# Altium footprint library Custom pcb footprint.PcbLib: 87 footprints (part 4 of 6)
Each footprint in its own frame and in the unit in brackets; x right, y up, seen from the top. Pads: shape width x height; smd on the part's side, far side on the other; paste and mask are expansions set on the pad; w line width, h text height; cw(c..) or ccw(c..) is an arc to the next point about the centre after c.
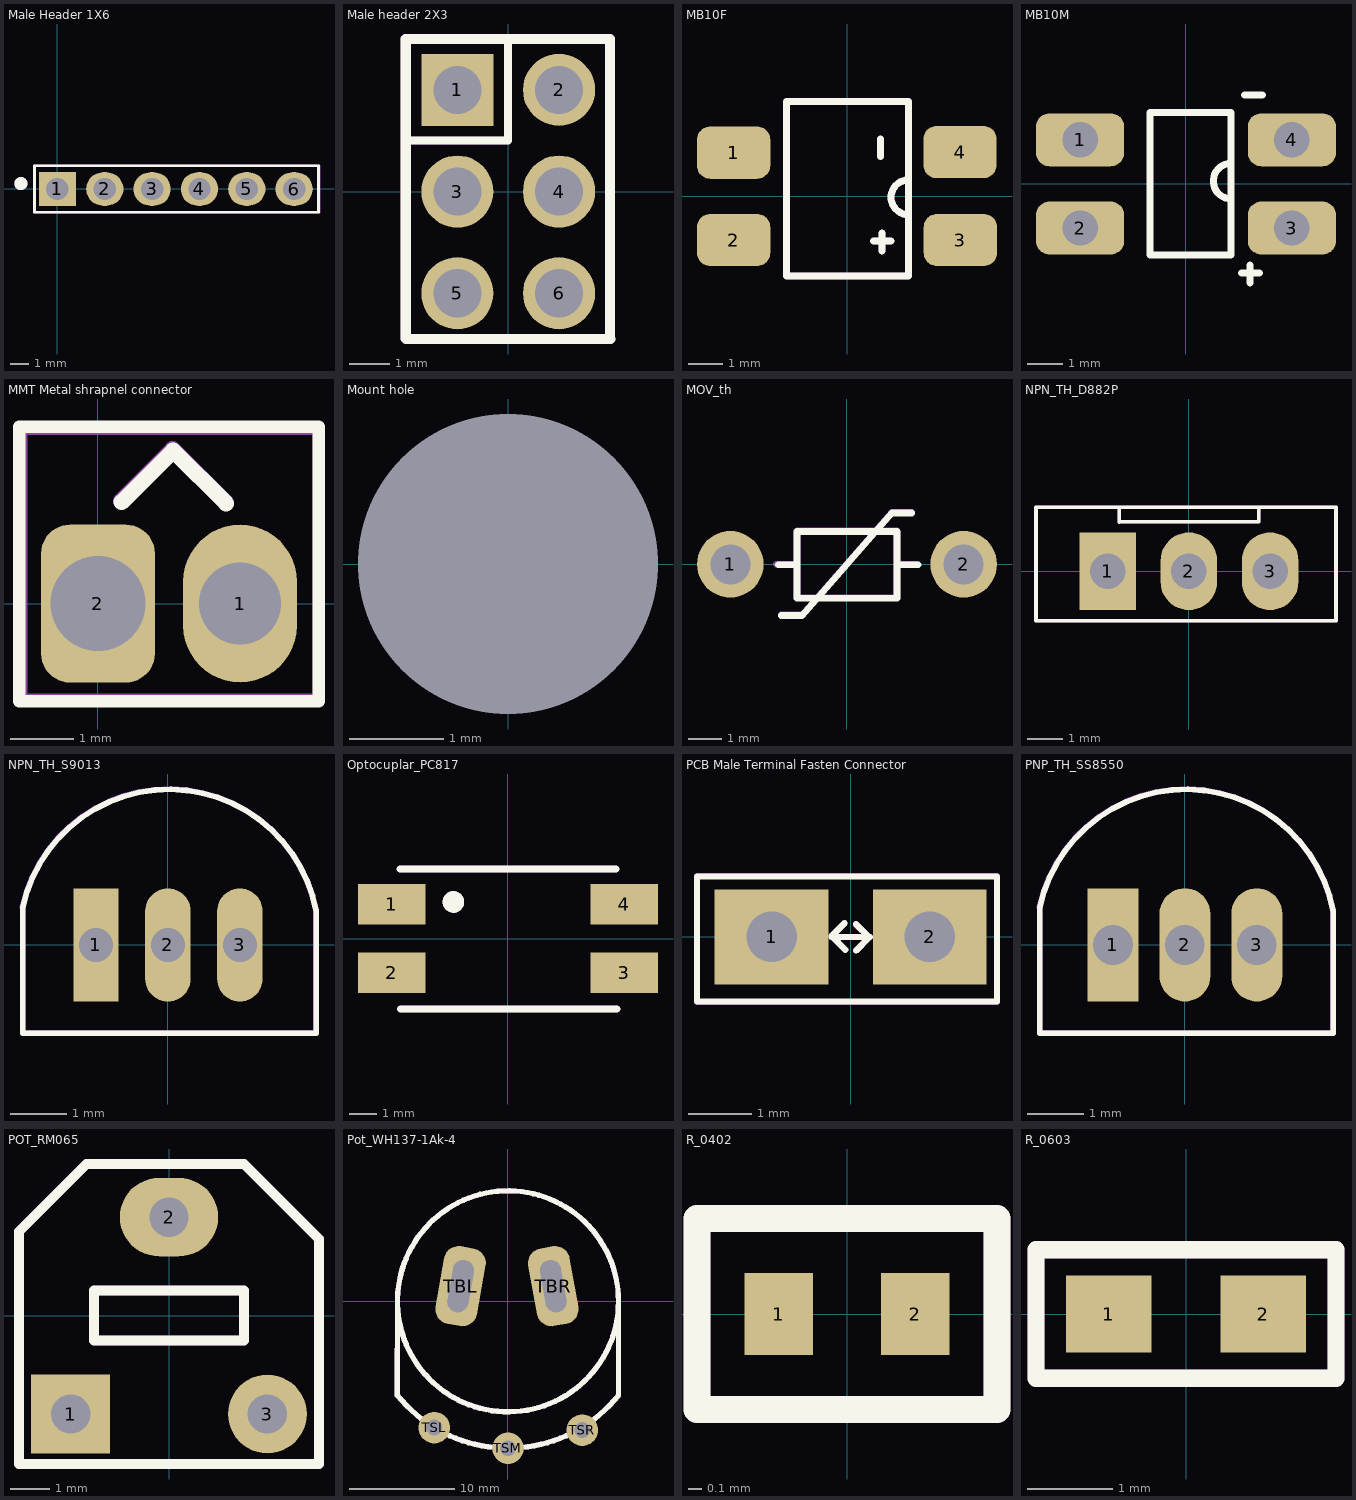
[diagram p3: the footprints below, top view; thin cyan lines are the x and y axes]

## Male Header 1X6 [mm]
pads (6):
  rect 2x1.8 hole 1.2: 1(0,0)
  oval 2x1.8 hole 1.2: 2(2.54,0) 3(5.08,0) 4(7.62,0) 5(10.16,0) 6(12.7,0)
Top Overlay:
  circle w0.5: c-1.961,0.291 r0.1
  lines w0.15: -1.23,-1.25 -1.23,1.25 14.005,1.25 14.005,-1.25 -1.23,-1.25
Top Assembly:
  circle w0.5: c-1.961,0.291 r0.1
  lines w0.15: -1.23,-1.25 -1.23,1.25 14.035,1.25 14.035,-1.25 -1.23,-1.25
  text "'.Designator'" at 3.226,-1.376 h0.7
3D body "1x6 Male Pin Header.STEP": height 10.55, standoff -2.99, extent -1.27,-1.25 13.975,1.25

## Male header 2X3 [mm]
pads (6):
  rect 1.8x1.8 hole 1.2: 1(-1.27,2.54)
  round 1.8 hole 1.2: 2(1.27,2.54) 3(-1.27,0) 4(1.27,0) 5(-1.27,-2.54) 6(1.27,-2.54)
Top Overlay:
  lines w0.2: -2.54,1.27 0,1.27 0,3.8
  lines w0.254: -2.56,-3.673 -2.56,3.81 2.54,3.81 2.54,-3.673 ; -2.55,-3.683 2.55,-3.683
Top Assembly:
  lines w0.2: -2.54,1.27 0,1.27 0,3.8
  lines w0.254: -2.56,-3.673 -2.56,3.81 2.54,3.81 2.54,-3.673 ; -2.55,-3.683 2.55,-3.683
  text "'.Designator'" at 0.302,-3.202 h0.7
3D body "CONN_PH2-06-UA_ADM.step": height 8.47, standoff -5.07, extent -2.54,-3.81 2.54,3.81

## MB10F [mm]
pads (4):
  rrect50% 2.1x1.5 smd: 1(-3.25,1.243) 2(-3.25,-1.26) 3(3.25,-1.26) 4(3.24,1.26)
Top Overlay:
  lines w0.2: 0.765,-1.286 1.265,-1.286 ; 0.963,1.13 0.963,1.64 ; 1.001,-1.575 1.001,-1.065 ; 1.765,-0.536 cw(c1.765,-0.036) 1.765,0.464 ; -1.735,-2.286 -1.735,2.714 1.765,2.714 1.765,2.214 1.765,-2.286 -1.735,-2.286
Top Assembly:
  lines w0.2: 0.765,-1.286 1.265,-1.286 ; 0.963,1.13 0.963,1.64 ; 1.001,-1.575 1.001,-1.065 ; 1.765,-0.536 cw(c1.765,-0.036) 1.765,0.464 ; -1.735,-2.286 -1.735,2.714 1.765,2.714 1.765,2.214 1.765,-2.286 -1.735,-2.286
  text "'.Designator'" at 0.065,-2.911 h1.52
3D body "MB10F_DIO.step": height 1.81, standoff 0, extent -3.505,-2.476 3.505,2.476

## MB10M [mm] "TH"
pads (4):
  rrect50% 2.5x1.5 hole 1: 1(-3,1.25) 2(-3,-1.25) 3(3,-1.25) 4(3,1.25)
Top Overlay:
  lines w0.2: 1.272,-0.42 cw(c1.272,0.08) 1.272,0.58 ; 1.575,-2.521 2.075,-2.521 ; 1.66,2.521 2.16,2.521 ; 1.811,-2.809 1.811,-2.3 ; -1.02,-2.011 -1.02,2.027 1.272,2.027 1.272,-2.011 -1.02,-2.011

## MMT Metal shrapnel connector [mm]
pads (2):
  oval 1.8x2.5 hole 1.3: 1(2.25,0)
  rrect50% 1.8x2.5 hole 1.5: 2(0,0)
Top Overlay:
  lines w0.2: -1.248,-1.548 3.497,-1.548 3.497,2.801 -1.248,2.801 -1.248,-1.548
  lines w0.254: 0.374,1.607 1.19,2.422 2.028,1.585
Top Assembly:
  lines w0.2: -1.212,-1.527 3.497,-1.527 3.497,2.77 -1.212,2.77 -1.212,-1.527
  lines w0.254: 0.365,1.627 1.182,2.445 2.02,1.607
  text "'.Designator'" at -0.775,-0.417 h0.7
3D body "MC Metal Shrapnel Contact.step": height 9.55, standoff -2.3, extent 0,-0.5 2.5,2.67

## Mount hole [mm] "M3"
pads (1):
  round 0 hole 3.2: A(0,0)

## MOV_th [mm] "p=7mm"
pads (2):
  round 2 hole 1.2: 1(-3.5,0) 2(3.5,0)
Top Overlay:
  lines w0.2: -2.062,-0.015 -1.499,-0.015 ; -1.975,-1.54 -1.348,-1.54 1.348,1.54 1.946,1.54 ; -1.499,-1.015 -1.499,0.985 1.501,0.985 1.501,-1.015 -1.438,-1.015 ; 1.501,-0.015 2.13,-0.015
Top Assembly:
  lines w0.2: -2.117,0 -1.5,0 ; -1.976,-1.524 -1.349,-1.524 1.346,1.555 1.945,1.555 ; -1.5,-1 -1.5,1 1.5,1 1.5,-1 -1.439,-1 ; 1.5,0 2.084,0
  text "'.Designator'" at -0.883,-0.601 h0.8

## NPN_TH_D882P [mm] "NPN TH D882P F_TO-126"
pads (3):
  rect 1.6x2.2 hole 1: 1(-2.3,0)
  oval 1.6x2.2 hole 1: 2(0,0) 3(2.3,0)
Top Overlay:
  lines w0.1: -1.971,1.804 -1.971,1.389 -1.958,1.402 1.975,1.402 1.975,1.776 ; -4.325,-1.394 4.162,-1.394 4.162,1.804 -4.325,1.804 -4.325,-1.394
Top Assembly:
  lines w0.1: -1.971,1.804 -1.971,1.389 -1.958,1.402 1.975,1.402 1.975,1.776 ; -4.325,-1.394 4.162,-1.394 4.162,1.804 -4.325,1.804 -4.325,-1.394
  text "'.Designator'" at -2.065,1.229 h0.8
3D body "Transistor_TO-126_.STEP": height 18.01, standoff -6.99, extent -4.327,-1.32 4.173,1.481

## NPN_TH_S9013 [mm] "NPN TH S9013 F_TO-92"
pads (3):
  rect 0.8x2 hole 0.6: 1(-1.27,0)
  oval 0.8x2 hole 0.6: 2(0,0) 3(1.27,0)
Top Overlay:
  lines w0.1: -2.563,0.661 cw(c0.022,0.101) 2.619,0.598 ; -2.561,0.646 -2.561,-1.56 2.618,-1.56 2.618,0.607
Top Assembly:
  lines w0.1: -2.567,0.668 cw(c0.018,0.108) 2.616,0.605 ; -2.564,0.653 -2.564,-1.553 2.614,-1.553 2.614,0.614
  text "'.Designator'" at -1.175,1.301 h0.8
3D body "TO92.STEP": height 10.33, standoff -7.7, extent -2.597,-1.6 2.597,2.6

## Optocuplar_PC817 [mm] "4P SMD PC817"
pads (4):
  rect 2.5x1.5 smd: 1(-4.3,1.27) 2(-4.3,-1.27) 3(4.3,-1.27) 4(4.3,1.27)
Top Overlay:
  circle w0.4: c-2.019,1.357 r0.2
  lines w0.254: -4,2.571 4,2.571 ; -3.971,-2.6 4.029,-2.6
Top Assembly:
  circle w0.4: c-2.019,1.357 r0.2
  lines w0.254: -4,2.571 4,2.571 ; -3.971,-2.6 4.029,-2.6
  text "'.Designator'" at -2.156,-1.051 h1.52
3D body "PC817_smd.STEP": height 3.85, standoff 0, extent -5,-2.29 5,2.29

## PCB Male Terminal Fasten Connector [mm] "Male IInsulated Crimp Spade PCB Male Terminal Fasten Connector"
pads (2):
  rect 1.8x1.5 hole 0.8 square paste+0 mask+0.051: 1(-1.25,0) 2(1.25,0)
Top Overlay:
  lines w0.1: -0.286,0 -0.084,-0.202 ; -0.098,0.216 -0.3,0.014 -0.3,0.01 -0.3,0 0.3,0 ; 0.084,-0.216 0.286,-0.014 ; 0.084,0.202 0.286,0 ; -2.431,-1.022 -2.431,0.956 2.316,0.956 2.316,-1.022 -2.431,-1.022
Top Assembly:
  lines w0.1: -0.286,0 -0.084,-0.202 ; -0.098,0.216 -0.3,0.014 -0.3,0.01 -0.3,0 0.3,0 ; 0.084,-0.216 0.286,-0.014 ; 0.084,0.202 0.286,0 ; -2.431,-1.028 -2.431,0.963 2.316,0.963 2.316,-1.028 -2.431,-1.028
  text "'.Designator'" at 0.318,-0.882 h0.8
3D body "PCB Male Terminal Fasten Connector P_2.5mm.step": height 4.1, standoff -1.7, extent -2,-0.125 1.95,0.125

## PNP_TH_SS8550 [mm] "PNP TH SS8550 F_TO-92"
pads (3):
  rect 0.9x2 hole 0.7: 1(-1.27,0)
  oval 0.9x2 hole 0.7: 2(0,0) 3(1.27,0)
Top Overlay:
  lines w0.1: -2.563,0.661 cw(c0.022,0.101) 2.619,0.598 ; -2.561,0.646 -2.561,-1.56 2.618,-1.56 2.618,0.607
Top Assembly:
  lines w0.1: -2.567,0.668 cw(c0.018,0.108) 2.616,0.605 ; -2.564,0.653 -2.564,-1.553 2.614,-1.553 2.614,0.614
  text "'.Designator'" at -1.175,1.301 h0.8
3D body "TO92.STEP": height 10.33, standoff -7.7, extent -2.597,-1.6 2.597,2.6

## POT_RM065 [mm] "3 pin pot"
pads (3):
  rect 2x2 hole 1: 1(-2.5,-2.5)
  oval 2.5x2 hole 1: 2(0,2.5)
  round 2 hole 1: 3(2.5,-2.5)
Top Overlay:
  lines w0.254: -2.095,3.85 1.905,3.85 ; -2.095,3.85 -3.81,2.135 -3.81,1.945 -3.81,-3.77 3.81,-3.77 3.81,1.945 1.905,3.85 ; -2.095,3.85 1.905,3.85 ; -1.905,-0.635 -1.905,0.635 1.905,0.635 1.905,-0.635 -1.905,-0.635
Top Assembly:
  lines w0.254: -2.095,3.85 1.905,3.85 ; -2.095,3.85 -3.81,2.135 -3.81,1.945 -3.81,-3.77 3.81,-3.77 3.81,1.945 1.905,3.85 ; -2.095,3.85 1.905,3.85 ; -1.905,-0.635 -1.905,0.635 1.905,0.635 1.905,-0.635 -1.905,-0.635
  text "'.Designator'" at -2.3,-0.64 h1.52
3D body "Poti_10kohm.stp": height 9.44, standoff -2.39, extent -3.417,-3.485 3.383,3.398

## Pot_WH137-1Ak-4 [mm] "Fan POT _B500K"
pads (5):
  rrect70% 7.5x4 hole 2 slot 5 at 80 deg rot 80: TBL(-4.5,1.446)
  rrect70% 7.5x4 hole 2 slot 5 at 100 deg rot 100: TBR(4.3,1.446)
  round 3 hole 1.5: TSL(-7,-12) TSM(0,-13.954) TSR(7.059,-12.238)
Top Overlay:
  circle w0.5: c0,0 r10.5
  lines w0.5: -10.526,-8.948 -10.498,0.126 ; -10.493,-8.948 ccw(c0,-0.454) 10.493,-8.948 ; 10.5,-8.948 10.5,0.254
Top Assembly:
  circle w0.5: c0,0 r10.5
  lines w0.5: -10.526,-8.948 -10.498,0.126 ; -10.493,-8.948 ccw(c0,-0.454) 10.493,-8.948 ; 10.5,-8.948 10.5,0.254
  text "'.Designator'" at -3.246,-6.692 h1.52
3D body "Pot_WH137-1Ak-4.step": height 36.3, standoff -5.7, extent -10,-13.886 10,10

## R_0402 [mm]
pads (2):
  rect 0.5x0.6 smd: 1(-0.5,0) 2(0.5,0)
Top Overlay:
  lines w0.2: -1.1,-0.7 1.1,-0.7 1.1,0.7 -1.1,0.7 -1.1,-0.7
Top Assembly:
  lines w0.2: -1.1,-0.7 1.1,-0.7 1.1,0.7 -1.1,0.7 -1.1,-0.7
  text "'.Designator'" at -0.8,-0.233 h0.5
3D body "RC0402FR-070RL.STEP": height 0.41, standoff 0.01, extent -0.5,-0.25 0.5,0.25

## R_0603 [mm]
pads (2):
  rect 1x0.9 smd: 1(-0.9,0) 2(0.9,0)
Top Overlay:
  lines w0.2: -1.75,-0.75 -1.75,0.75 1.75,0.75 1.75,-0.75 -1.75,-0.75
Top Assembly:
  lines w0.2: -1.75,-0.75 -1.75,0.75 1.75,0.75 1.75,-0.75 -1.75,-0.75
  text "'.Designator'" at -1.4,-0.167 h0.7
3D body "RC0603JR-070RL--3DModel-STEP-510211.STEP": height 0.56, standoff 0.01, extent -0.8,-0.4 0.8,0.4